# Altium schematic symbol library con-molex-c-grid-sl.SCHLIB: 143 symbols
Pins are listed as number, name and electrical type; pins without a type are passive.

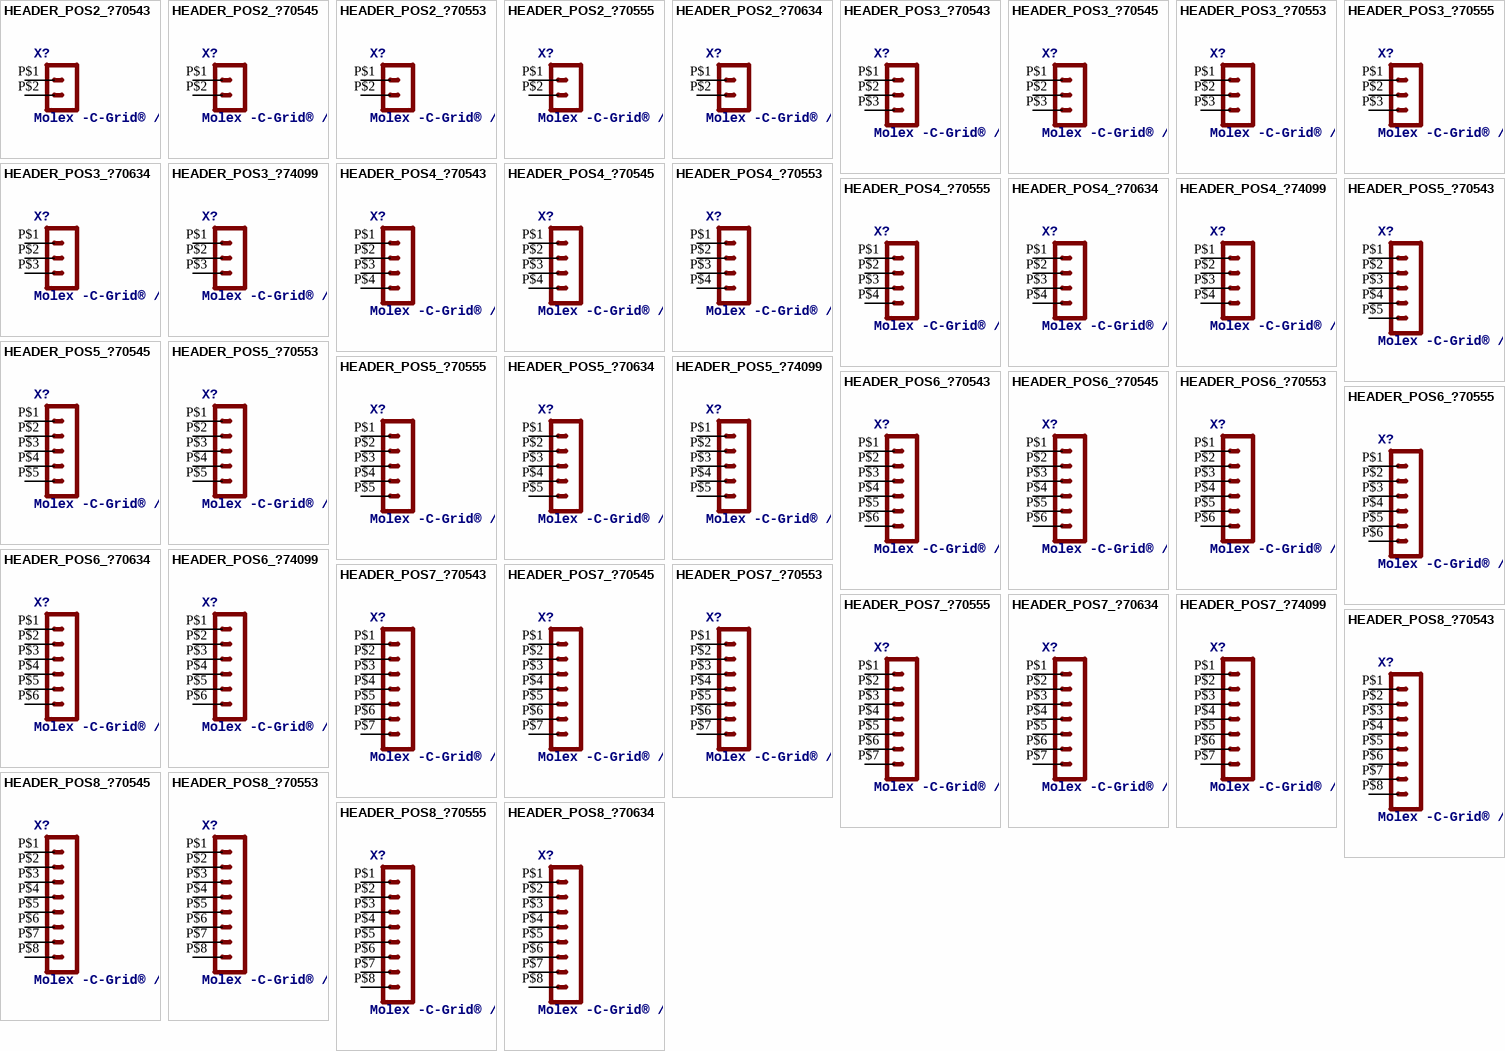
[diagram p0: symbols HEADER_POS2_?70543 to HEADER_POS8_?70634]

## HEADER_POS2_?70543
designator X?, comment Molex -C-Grid® / SL Series connector   Wire-to-Board 2.54 mm (0.100") pitch header, 2 positions.
footprint 70543-POS2
pins: P$1 1, P$2 2

## HEADER_POS2_?70545
designator X?, comment Molex -C-Grid® / SL Series connector   Wire-to-Board 2.54 mm (0.100") pitch header, 2 positions.
footprint 70545-POS2
pins: P$1 1, P$2 2

## HEADER_POS2_?70553
designator X?, comment Molex -C-Grid® / SL Series connector   Wire-to-Board 2.54 mm (0.100") pitch header, 2 positions.
footprint 70553-POS2
pins: P$1 1, P$2 2

## HEADER_POS2_?70555
designator X?, comment Molex -C-Grid® / SL Series connector   Wire-to-Board 2.54 mm (0.100") pitch header, 2 positions.
footprint 70555-POS2
pins: P$1 1, P$2 2

## HEADER_POS2_?70634
designator X?, comment Molex -C-Grid® / SL Series connector   Wire-to-Board 2.54 mm (0.100") pitch header, 2 positions.
footprint 70634-POS2
pins: P$1 1, P$2 2

## HEADER_POS3_?70543
designator X?, comment Molex -C-Grid® / SL Series connector   Wire-to-Board 2.54 mm (0.100") pitch header, 3 positions.
footprint 70543-POS3
pins: P$1 1, P$2 2, P$3 3

## HEADER_POS3_?70545
designator X?, comment Molex -C-Grid® / SL Series connector   Wire-to-Board 2.54 mm (0.100") pitch header, 3 positions.
footprint 70545-POS3
pins: P$1 1, P$2 2, P$3 3

## HEADER_POS3_?70553
designator X?, comment Molex -C-Grid® / SL Series connector   Wire-to-Board 2.54 mm (0.100") pitch header, 3 positions.
footprint 70553-POS3
pins: P$1 1, P$2 2, P$3 3

## HEADER_POS3_?70555
designator X?, comment Molex -C-Grid® / SL Series connector   Wire-to-Board 2.54 mm (0.100") pitch header, 3 positions.
footprint 70555-POS3
pins: P$1 1, P$2 2, P$3 3

## HEADER_POS3_?70634
designator X?, comment Molex -C-Grid® / SL Series connector   Wire-to-Board 2.54 mm (0.100") pitch header, 3 positions.
footprint 70634-POS3
pins: P$1 1, P$2 2, P$3 3

## HEADER_POS3_?74099
designator X?, comment Molex -C-Grid® / SL Series connector   Wire-to-Board 2.54 mm (0.100") pitch header, 3 positions.
footprint 74099-POS3
pins: P$1 1, P$2 2, P$3 3

## HEADER_POS4_?70543
designator X?, comment Molex -C-Grid® / SL Series connector   Wire-to-Board 2.54 mm (0.100") pitch header, 4 positions.
footprint 70543-POS4
pins: P$1 1, P$2 2, P$3 3, P$4 4

## HEADER_POS4_?70545
designator X?, comment Molex -C-Grid® / SL Series connector   Wire-to-Board 2.54 mm (0.100") pitch header, 4 positions.
footprint 70545-POS4
pins: P$1 1, P$2 2, P$3 3, P$4 4

## HEADER_POS4_?70553
designator X?, comment Molex -C-Grid® / SL Series connector   Wire-to-Board 2.54 mm (0.100") pitch header, 4 positions.
footprint 70553-POS4
pins: P$1 1, P$2 2, P$3 3, P$4 4

## HEADER_POS4_?70555
designator X?, comment Molex -C-Grid® / SL Series connector   Wire-to-Board 2.54 mm (0.100") pitch header, 4 positions.
footprint 70555-POS4
pins: P$1 1, P$2 2, P$3 3, P$4 4

## HEADER_POS4_?70634
designator X?, comment Molex -C-Grid® / SL Series connector   Wire-to-Board 2.54 mm (0.100") pitch header, 4 positions.
footprint 70634-POS4
pins: P$1 1, P$2 2, P$3 3, P$4 4

## HEADER_POS4_?74099
designator X?, comment Molex -C-Grid® / SL Series connector   Wire-to-Board 2.54 mm (0.100") pitch header, 4 positions.
footprint 74099-POS4
pins: P$1 1, P$2 2, P$3 3, P$4 4

## HEADER_POS5_?70543
designator X?, comment Molex -C-Grid® / SL Series connector   Wire-to-Board 2.54 mm (0.100") pitch header, 5 positions.
footprint 70543-POS5
pins: P$1 1, P$2 2, P$3 3, P$4 4, P$5 5

## HEADER_POS5_?70545
designator X?, comment Molex -C-Grid® / SL Series connector   Wire-to-Board 2.54 mm (0.100") pitch header, 5 positions.
footprint 70545-POS5
pins: P$1 1, P$2 2, P$3 3, P$4 4, P$5 5

## HEADER_POS5_?70553
designator X?, comment Molex -C-Grid® / SL Series connector   Wire-to-Board 2.54 mm (0.100") pitch header, 5 positions.
footprint 70553-POS5
pins: P$1 1, P$2 2, P$3 3, P$4 4, P$5 5

## HEADER_POS5_?70555
designator X?, comment Molex -C-Grid® / SL Series connector   Wire-to-Board 2.54 mm (0.100") pitch header, 5 positions.
footprint 70555-POS5
pins: P$1 1, P$2 2, P$3 3, P$4 4, P$5 5

## HEADER_POS5_?70634
designator X?, comment Molex -C-Grid® / SL Series connector   Wire-to-Board 2.54 mm (0.100") pitch header, 5 positions.
footprint 70634-POS5
pins: P$1 1, P$2 2, P$3 3, P$4 4, P$5 5

## HEADER_POS5_?74099
designator X?, comment Molex -C-Grid® / SL Series connector   Wire-to-Board 2.54 mm (0.100") pitch header, 5 positions.
footprint 74099-POS5
pins: P$1 1, P$2 2, P$3 3, P$4 4, P$5 5

## HEADER_POS6_?70543
designator X?, comment Molex -C-Grid® / SL Series connector   Wire-to-Board 2.54 mm (0.100") pitch header, 6 positions.
footprint 70543-POS6
pins: P$1 1, P$2 2, P$3 3, P$4 4, P$5 5, P$6 6

## HEADER_POS6_?70545
designator X?, comment Molex -C-Grid® / SL Series connector   Wire-to-Board 2.54 mm (0.100") pitch header, 6 positions.
footprint 70545-POS6
pins: P$1 1, P$2 2, P$3 3, P$4 4, P$5 5, P$6 6

## HEADER_POS6_?70553
designator X?, comment Molex -C-Grid® / SL Series connector   Wire-to-Board 2.54 mm (0.100") pitch header, 6 positions.
footprint 70553-POS6
pins: P$1 1, P$2 2, P$3 3, P$4 4, P$5 5, P$6 6

## HEADER_POS6_?70555
designator X?, comment Molex -C-Grid® / SL Series connector   Wire-to-Board 2.54 mm (0.100") pitch header, 6 positions.
footprint 70555-POS6
pins: P$1 1, P$2 2, P$3 3, P$4 4, P$5 5, P$6 6

## HEADER_POS6_?70634
designator X?, comment Molex -C-Grid® / SL Series connector   Wire-to-Board 2.54 mm (0.100") pitch header, 6 positions.
footprint 70634-POS6
pins: P$1 1, P$2 2, P$3 3, P$4 4, P$5 5, P$6 6

## HEADER_POS6_?74099
designator X?, comment Molex -C-Grid® / SL Series connector   Wire-to-Board 2.54 mm (0.100") pitch header, 6 positions.
footprint 74099-POS6
pins: P$1 1, P$2 2, P$3 3, P$4 4, P$5 5, P$6 6

## HEADER_POS7_?70543
designator X?, comment Molex -C-Grid® / SL Series connector   Wire-to-Board 2.54 mm (0.100") pitch header, 7 positions.
footprint 70543-POS7
pins: P$1 1, P$2 2, P$3 3, P$4 4, P$5 5, P$6 6, P$7 7

## HEADER_POS7_?70545
designator X?, comment Molex -C-Grid® / SL Series connector   Wire-to-Board 2.54 mm (0.100") pitch header, 7 positions.
footprint 70545-POS7
pins: P$1 1, P$2 2, P$3 3, P$4 4, P$5 5, P$6 6, P$7 7

## HEADER_POS7_?70553
designator X?, comment Molex -C-Grid® / SL Series connector   Wire-to-Board 2.54 mm (0.100") pitch header, 7 positions.
footprint 70553-POS7
pins: P$1 1, P$2 2, P$3 3, P$4 4, P$5 5, P$6 6, P$7 7

## HEADER_POS7_?70555
designator X?, comment Molex -C-Grid® / SL Series connector   Wire-to-Board 2.54 mm (0.100") pitch header, 7 positions.
footprint 70555-POS7
pins: P$1 1, P$2 2, P$3 3, P$4 4, P$5 5, P$6 6, P$7 7

## HEADER_POS7_?70634
designator X?, comment Molex -C-Grid® / SL Series connector   Wire-to-Board 2.54 mm (0.100") pitch header, 7 positions.
footprint 70634-POS7
pins: P$1 1, P$2 2, P$3 3, P$4 4, P$5 5, P$6 6, P$7 7

## HEADER_POS7_?74099
designator X?, comment Molex -C-Grid® / SL Series connector   Wire-to-Board 2.54 mm (0.100") pitch header, 7 positions.
footprint 74099-POS7
pins: P$1 1, P$2 2, P$3 3, P$4 4, P$5 5, P$6 6, P$7 7

## HEADER_POS8_?70543
designator X?, comment Molex -C-Grid® / SL Series connector   Wire-to-Board 2.54 mm (0.100") pitch header, 8 positions.
footprint 70543-POS8
pins: P$1 1, P$2 2, P$3 3, P$4 4, P$5 5, P$6 6, P$7 7, P$8 8

## HEADER_POS8_?70545
designator X?, comment Molex -C-Grid® / SL Series connector   Wire-to-Board 2.54 mm (0.100") pitch header, 8 positions.
footprint 70545-POS8
pins: P$1 1, P$2 2, P$3 3, P$4 4, P$5 5, P$6 6, P$7 7, P$8 8

## HEADER_POS8_?70553
designator X?, comment Molex -C-Grid® / SL Series connector   Wire-to-Board 2.54 mm (0.100") pitch header, 8 positions.
footprint 70553-POS8
pins: P$1 1, P$2 2, P$3 3, P$4 4, P$5 5, P$6 6, P$7 7, P$8 8

## HEADER_POS8_?70555
designator X?, comment Molex -C-Grid® / SL Series connector   Wire-to-Board 2.54 mm (0.100") pitch header, 8 positions.
footprint 70555-POS8
pins: P$1 1, P$2 2, P$3 3, P$4 4, P$5 5, P$6 6, P$7 7, P$8 8

## HEADER_POS8_?70634
designator X?, comment Molex -C-Grid® / SL Series connector   Wire-to-Board 2.54 mm (0.100") pitch header, 8 positions.
footprint 70634-POS8
pins: P$1 1, P$2 2, P$3 3, P$4 4, P$5 5, P$6 6, P$7 7, P$8 8

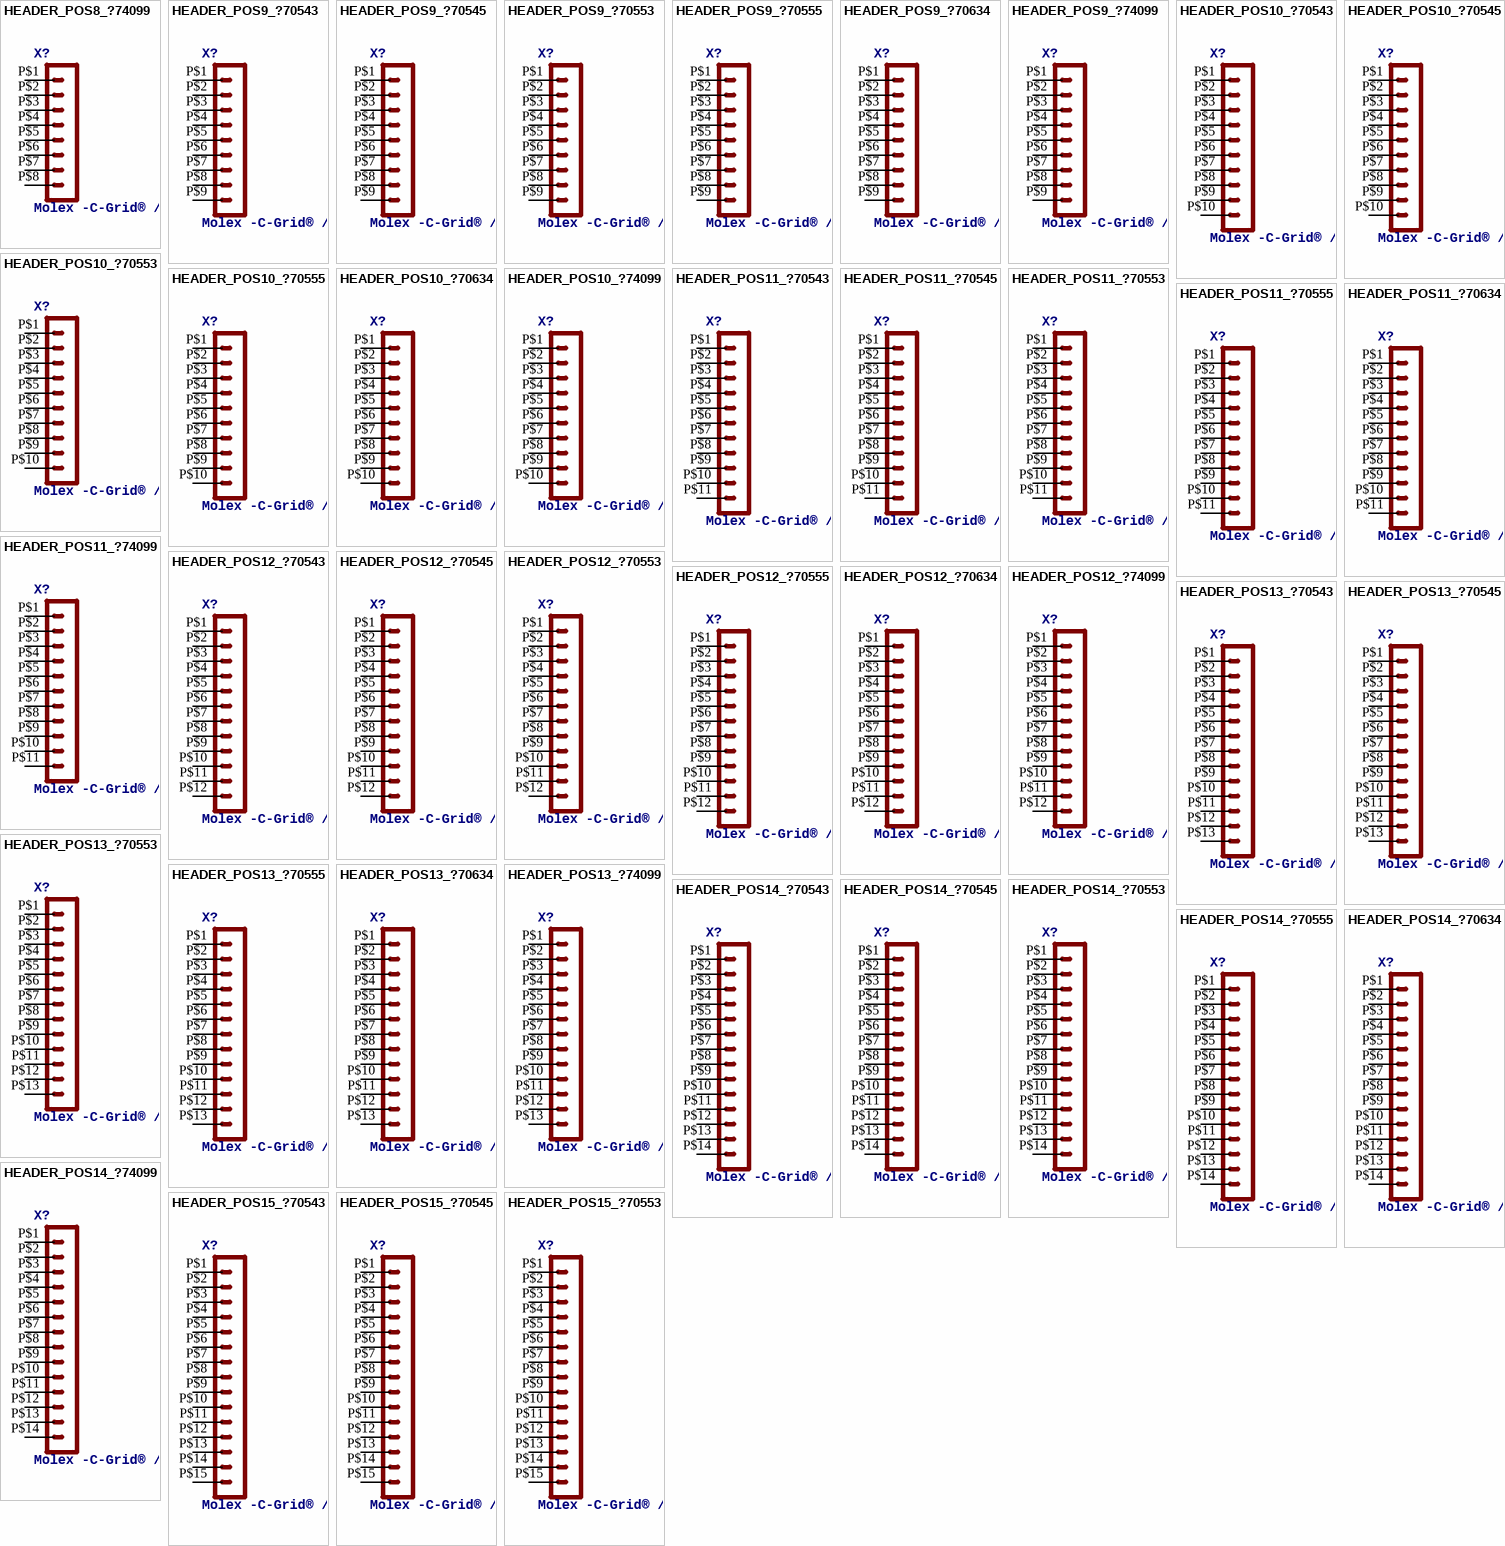
[diagram p1: symbols HEADER_POS8_?74099 to HEADER_POS15_?70553]

## HEADER_POS8_?74099
designator X?, comment Molex -C-Grid® / SL Series connector   Wire-to-Board 2.54 mm (0.100") pitch header, 8 positions.
footprint 74099-POS8
pins: P$1 1, P$2 2, P$3 3, P$4 4, P$5 5, P$6 6, P$7 7, P$8 8

## HEADER_POS9_?70543
designator X?, comment Molex -C-Grid® / SL Series connector   Wire-to-Board 2.54 mm (0.100") pitch header, 9 positions.
footprint 70543-POS9
pins: P$1 1, P$2 2, P$3 3, P$4 4, P$5 5, P$6 6, P$7 7, P$8 8, P$9 9

## HEADER_POS9_?70545
designator X?, comment Molex -C-Grid® / SL Series connector   Wire-to-Board 2.54 mm (0.100") pitch header, 9 positions.
footprint 70545-POS9
pins: P$1 1, P$2 2, P$3 3, P$4 4, P$5 5, P$6 6, P$7 7, P$8 8, P$9 9

## HEADER_POS9_?70553
designator X?, comment Molex -C-Grid® / SL Series connector   Wire-to-Board 2.54 mm (0.100") pitch header, 9 positions.
footprint 70553-POS9
pins: P$1 1, P$2 2, P$3 3, P$4 4, P$5 5, P$6 6, P$7 7, P$8 8, P$9 9

## HEADER_POS9_?70555
designator X?, comment Molex -C-Grid® / SL Series connector   Wire-to-Board 2.54 mm (0.100") pitch header, 9 positions.
footprint 70555-POS9
pins: P$1 1, P$2 2, P$3 3, P$4 4, P$5 5, P$6 6, P$7 7, P$8 8, P$9 9

## HEADER_POS9_?70634
designator X?, comment Molex -C-Grid® / SL Series connector   Wire-to-Board 2.54 mm (0.100") pitch header, 9 positions.
footprint 70634-POS9
pins: P$1 1, P$2 2, P$3 3, P$4 4, P$5 5, P$6 6, P$7 7, P$8 8, P$9 9

## HEADER_POS9_?74099
designator X?, comment Molex -C-Grid® / SL Series connector   Wire-to-Board 2.54 mm (0.100") pitch header, 9 positions.
footprint 74099-POS9
pins: P$1 1, P$2 2, P$3 3, P$4 4, P$5 5, P$6 6, P$7 7, P$8 8, P$9 9

## HEADER_POS10_?70543
designator X?, comment Molex -C-Grid® / SL Series connector   Wire-to-Board 2.54 mm (0.100") pitch header, 10 positions.
footprint 70543-POS10
pins: P$1 1, P$2 2, P$3 3, P$4 4, P$5 5, P$6 6, P$7 7, P$8 8, P$9 9, P$10 10

## HEADER_POS10_?70545
designator X?, comment Molex -C-Grid® / SL Series connector   Wire-to-Board 2.54 mm (0.100") pitch header, 10 positions.
footprint 70545-POS10
pins: P$1 1, P$2 2, P$3 3, P$4 4, P$5 5, P$6 6, P$7 7, P$8 8, P$9 9, P$10 10

## HEADER_POS10_?70553
designator X?, comment Molex -C-Grid® / SL Series connector   Wire-to-Board 2.54 mm (0.100") pitch header, 10 positions.
footprint 70553-POS10
pins: P$1 1, P$2 2, P$3 3, P$4 4, P$5 5, P$6 6, P$7 7, P$8 8, P$9 9, P$10 10

## HEADER_POS10_?70555
designator X?, comment Molex -C-Grid® / SL Series connector   Wire-to-Board 2.54 mm (0.100") pitch header, 10 positions.
footprint 70555-POS10
pins: P$1 1, P$2 2, P$3 3, P$4 4, P$5 5, P$6 6, P$7 7, P$8 8, P$9 9, P$10 10

## HEADER_POS10_?70634
designator X?, comment Molex -C-Grid® / SL Series connector   Wire-to-Board 2.54 mm (0.100") pitch header, 10 positions.
footprint 70634-POS10
pins: P$1 1, P$2 2, P$3 3, P$4 4, P$5 5, P$6 6, P$7 7, P$8 8, P$9 9, P$10 10

## HEADER_POS10_?74099
designator X?, comment Molex -C-Grid® / SL Series connector   Wire-to-Board 2.54 mm (0.100") pitch header, 10 positions.
footprint 74099-POS10
pins: P$1 1, P$2 2, P$3 3, P$4 4, P$5 5, P$6 6, P$7 7, P$8 8, P$9 9, P$10 10

## HEADER_POS11_?70543
designator X?, comment Molex -C-Grid® / SL Series connector   Wire-to-Board 2.54 mm (0.100") pitch header, 11 positions.
footprint 70543-POS11
pins: P$1 1, P$2 2, P$3 3, P$4 4, P$5 5, P$6 6, P$7 7, P$8 8, P$9 9, P$10 10, P$11 11

## HEADER_POS11_?70545
designator X?, comment Molex -C-Grid® / SL Series connector   Wire-to-Board 2.54 mm (0.100") pitch header, 11 positions.
footprint 70545-POS11
pins: P$1 1, P$2 2, P$3 3, P$4 4, P$5 5, P$6 6, P$7 7, P$8 8, P$9 9, P$10 10, P$11 11

## HEADER_POS11_?70553
designator X?, comment Molex -C-Grid® / SL Series connector   Wire-to-Board 2.54 mm (0.100") pitch header, 11 positions.
footprint 70553-POS11
pins: P$1 1, P$2 2, P$3 3, P$4 4, P$5 5, P$6 6, P$7 7, P$8 8, P$9 9, P$10 10, P$11 11

## HEADER_POS11_?70555
designator X?, comment Molex -C-Grid® / SL Series connector   Wire-to-Board 2.54 mm (0.100") pitch header, 11 positions.
footprint 70555-POS11
pins: P$1 1, P$2 2, P$3 3, P$4 4, P$5 5, P$6 6, P$7 7, P$8 8, P$9 9, P$10 10, P$11 11

## HEADER_POS11_?70634
designator X?, comment Molex -C-Grid® / SL Series connector   Wire-to-Board 2.54 mm (0.100") pitch header, 11 positions.
footprint 70634-POS11
pins: P$1 1, P$2 2, P$3 3, P$4 4, P$5 5, P$6 6, P$7 7, P$8 8, P$9 9, P$10 10, P$11 11

## HEADER_POS11_?74099
designator X?, comment Molex -C-Grid® / SL Series connector   Wire-to-Board 2.54 mm (0.100") pitch header, 11 positions.
footprint 74099-POS11
pins: P$1 1, P$2 2, P$3 3, P$4 4, P$5 5, P$6 6, P$7 7, P$8 8, P$9 9, P$10 10, P$11 11

## HEADER_POS12_?70543
designator X?, comment Molex -C-Grid® / SL Series connector   Wire-to-Board 2.54 mm (0.100") pitch header, 12 positions.
footprint 70543-POS12
pins: P$1 1, P$2 2, P$3 3, P$4 4, P$5 5, P$6 6, P$7 7, P$8 8, P$9 9, P$10 10, P$11 11, P$12 12

## HEADER_POS12_?70545
designator X?, comment Molex -C-Grid® / SL Series connector   Wire-to-Board 2.54 mm (0.100") pitch header, 12 positions.
footprint 70545-POS12
pins: P$1 1, P$2 2, P$3 3, P$4 4, P$5 5, P$6 6, P$7 7, P$8 8, P$9 9, P$10 10, P$11 11, P$12 12

## HEADER_POS12_?70553
designator X?, comment Molex -C-Grid® / SL Series connector   Wire-to-Board 2.54 mm (0.100") pitch header, 12 positions.
footprint 70553-POS12
pins: P$1 1, P$2 2, P$3 3, P$4 4, P$5 5, P$6 6, P$7 7, P$8 8, P$9 9, P$10 10, P$11 11, P$12 12

## HEADER_POS12_?70555
designator X?, comment Molex -C-Grid® / SL Series connector   Wire-to-Board 2.54 mm (0.100") pitch header, 12 positions.
footprint 70555-POS12
pins: P$1 1, P$2 2, P$3 3, P$4 4, P$5 5, P$6 6, P$7 7, P$8 8, P$9 9, P$10 10, P$11 11, P$12 12

## HEADER_POS12_?70634
designator X?, comment Molex -C-Grid® / SL Series connector   Wire-to-Board 2.54 mm (0.100") pitch header, 12 positions.
footprint 70634-POS12
pins: P$1 1, P$2 2, P$3 3, P$4 4, P$5 5, P$6 6, P$7 7, P$8 8, P$9 9, P$10 10, P$11 11, P$12 12

## HEADER_POS12_?74099
designator X?, comment Molex -C-Grid® / SL Series connector   Wire-to-Board 2.54 mm (0.100") pitch header, 12 positions.
footprint 74099-POS12
pins: P$1 1, P$2 2, P$3 3, P$4 4, P$5 5, P$6 6, P$7 7, P$8 8, P$9 9, P$10 10, P$11 11, P$12 12

## HEADER_POS13_?70543
designator X?, comment Molex -C-Grid® / SL Series connector   Wire-to-Board 2.54 mm (0.100") pitch header, 13 positions.
footprint 70543-POS13
pins: P$1 1, P$2 2, P$3 3, P$4 4, P$5 5, P$6 6, P$7 7, P$8 8, P$9 9, P$10 10, P$11 11, P$12 12, P$13 13

## HEADER_POS13_?70545
designator X?, comment Molex -C-Grid® / SL Series connector   Wire-to-Board 2.54 mm (0.100") pitch header, 13 positions.
footprint 70545-POS13
pins: P$1 1, P$2 2, P$3 3, P$4 4, P$5 5, P$6 6, P$7 7, P$8 8, P$9 9, P$10 10, P$11 11, P$12 12, P$13 13

## HEADER_POS13_?70553
designator X?, comment Molex -C-Grid® / SL Series connector   Wire-to-Board 2.54 mm (0.100") pitch header, 13 positions.
footprint 70553-POS13
pins: P$1 1, P$2 2, P$3 3, P$4 4, P$5 5, P$6 6, P$7 7, P$8 8, P$9 9, P$10 10, P$11 11, P$12 12, P$13 13

## HEADER_POS13_?70555
designator X?, comment Molex -C-Grid® / SL Series connector   Wire-to-Board 2.54 mm (0.100") pitch header, 13 positions.
footprint 70555-POS13
pins: P$1 1, P$2 2, P$3 3, P$4 4, P$5 5, P$6 6, P$7 7, P$8 8, P$9 9, P$10 10, P$11 11, P$12 12, P$13 13

## HEADER_POS13_?70634
designator X?, comment Molex -C-Grid® / SL Series connector   Wire-to-Board 2.54 mm (0.100") pitch header, 13 positions.
footprint 70634-POS13
pins: P$1 1, P$2 2, P$3 3, P$4 4, P$5 5, P$6 6, P$7 7, P$8 8, P$9 9, P$10 10, P$11 11, P$12 12, P$13 13

## HEADER_POS13_?74099
designator X?, comment Molex -C-Grid® / SL Series connector   Wire-to-Board 2.54 mm (0.100") pitch header, 13 positions.
footprint 74099-POS13
pins: P$1 1, P$2 2, P$3 3, P$4 4, P$5 5, P$6 6, P$7 7, P$8 8, P$9 9, P$10 10, P$11 11, P$12 12, P$13 13

## HEADER_POS14_?70543
designator X?, comment Molex -C-Grid® / SL Series connector   Wire-to-Board 2.54 mm (0.100") pitch header, 14 positions.
footprint 70543-POS14
pins: P$1 1, P$2 2, P$3 3, P$4 4, P$5 5, P$6 6, P$7 7, P$8 8, P$9 9, P$10 10, P$11 11, P$12 12, P$13 13, P$14 14

## HEADER_POS14_?70545
designator X?, comment Molex -C-Grid® / SL Series connector   Wire-to-Board 2.54 mm (0.100") pitch header, 14 positions.
footprint 70545-POS14
pins: P$1 1, P$2 2, P$3 3, P$4 4, P$5 5, P$6 6, P$7 7, P$8 8, P$9 9, P$10 10, P$11 11, P$12 12, P$13 13, P$14 14

## HEADER_POS14_?70553
designator X?, comment Molex -C-Grid® / SL Series connector   Wire-to-Board 2.54 mm (0.100") pitch header, 14 positions.
footprint 70553-POS14
pins: P$1 1, P$2 2, P$3 3, P$4 4, P$5 5, P$6 6, P$7 7, P$8 8, P$9 9, P$10 10, P$11 11, P$12 12, P$13 13, P$14 14

## HEADER_POS14_?70555
designator X?, comment Molex -C-Grid® / SL Series connector   Wire-to-Board 2.54 mm (0.100") pitch header, 14 positions.
footprint 70555-POS14
pins: P$1 1, P$2 2, P$3 3, P$4 4, P$5 5, P$6 6, P$7 7, P$8 8, P$9 9, P$10 10, P$11 11, P$12 12, P$13 13, P$14 14

## HEADER_POS14_?70634
designator X?, comment Molex -C-Grid® / SL Series connector   Wire-to-Board 2.54 mm (0.100") pitch header, 14 positions.
footprint 70634-POS14
pins: P$1 1, P$2 2, P$3 3, P$4 4, P$5 5, P$6 6, P$7 7, P$8 8, P$9 9, P$10 10, P$11 11, P$12 12, P$13 13, P$14 14

## HEADER_POS14_?74099
designator X?, comment Molex -C-Grid® / SL Series connector   Wire-to-Board 2.54 mm (0.100") pitch header, 14 positions.
footprint 74099-POS14
pins: P$1 1, P$2 2, P$3 3, P$4 4, P$5 5, P$6 6, P$7 7, P$8 8, P$9 9, P$10 10, P$11 11, P$12 12, P$13 13, P$14 14

## HEADER_POS15_?70543
designator X?, comment Molex -C-Grid® / SL Series connector   Wire-to-Board 2.54 mm (0.100") pitch header, 15 positions.
footprint 70543-POS15
pins: P$1 1, P$2 2, P$3 3, P$4 4, P$5 5, P$6 6, P$7 7, P$8 8, P$9 9, P$10 10, P$11 11, P$12 12, P$13 13, P$14 14, P$15 15

## HEADER_POS15_?70545
designator X?, comment Molex -C-Grid® / SL Series connector   Wire-to-Board 2.54 mm (0.100") pitch header, 15 positions.
footprint 70545-POS15
pins: P$1 1, P$2 2, P$3 3, P$4 4, P$5 5, P$6 6, P$7 7, P$8 8, P$9 9, P$10 10, P$11 11, P$12 12, P$13 13, P$14 14, P$15 15

## HEADER_POS15_?70553
designator X?, comment Molex -C-Grid® / SL Series connector   Wire-to-Board 2.54 mm (0.100") pitch header, 15 positions.
footprint 70553-POS15
pins: P$1 1, P$2 2, P$3 3, P$4 4, P$5 5, P$6 6, P$7 7, P$8 8, P$9 9, P$10 10, P$11 11, P$12 12, P$13 13, P$14 14, P$15 15

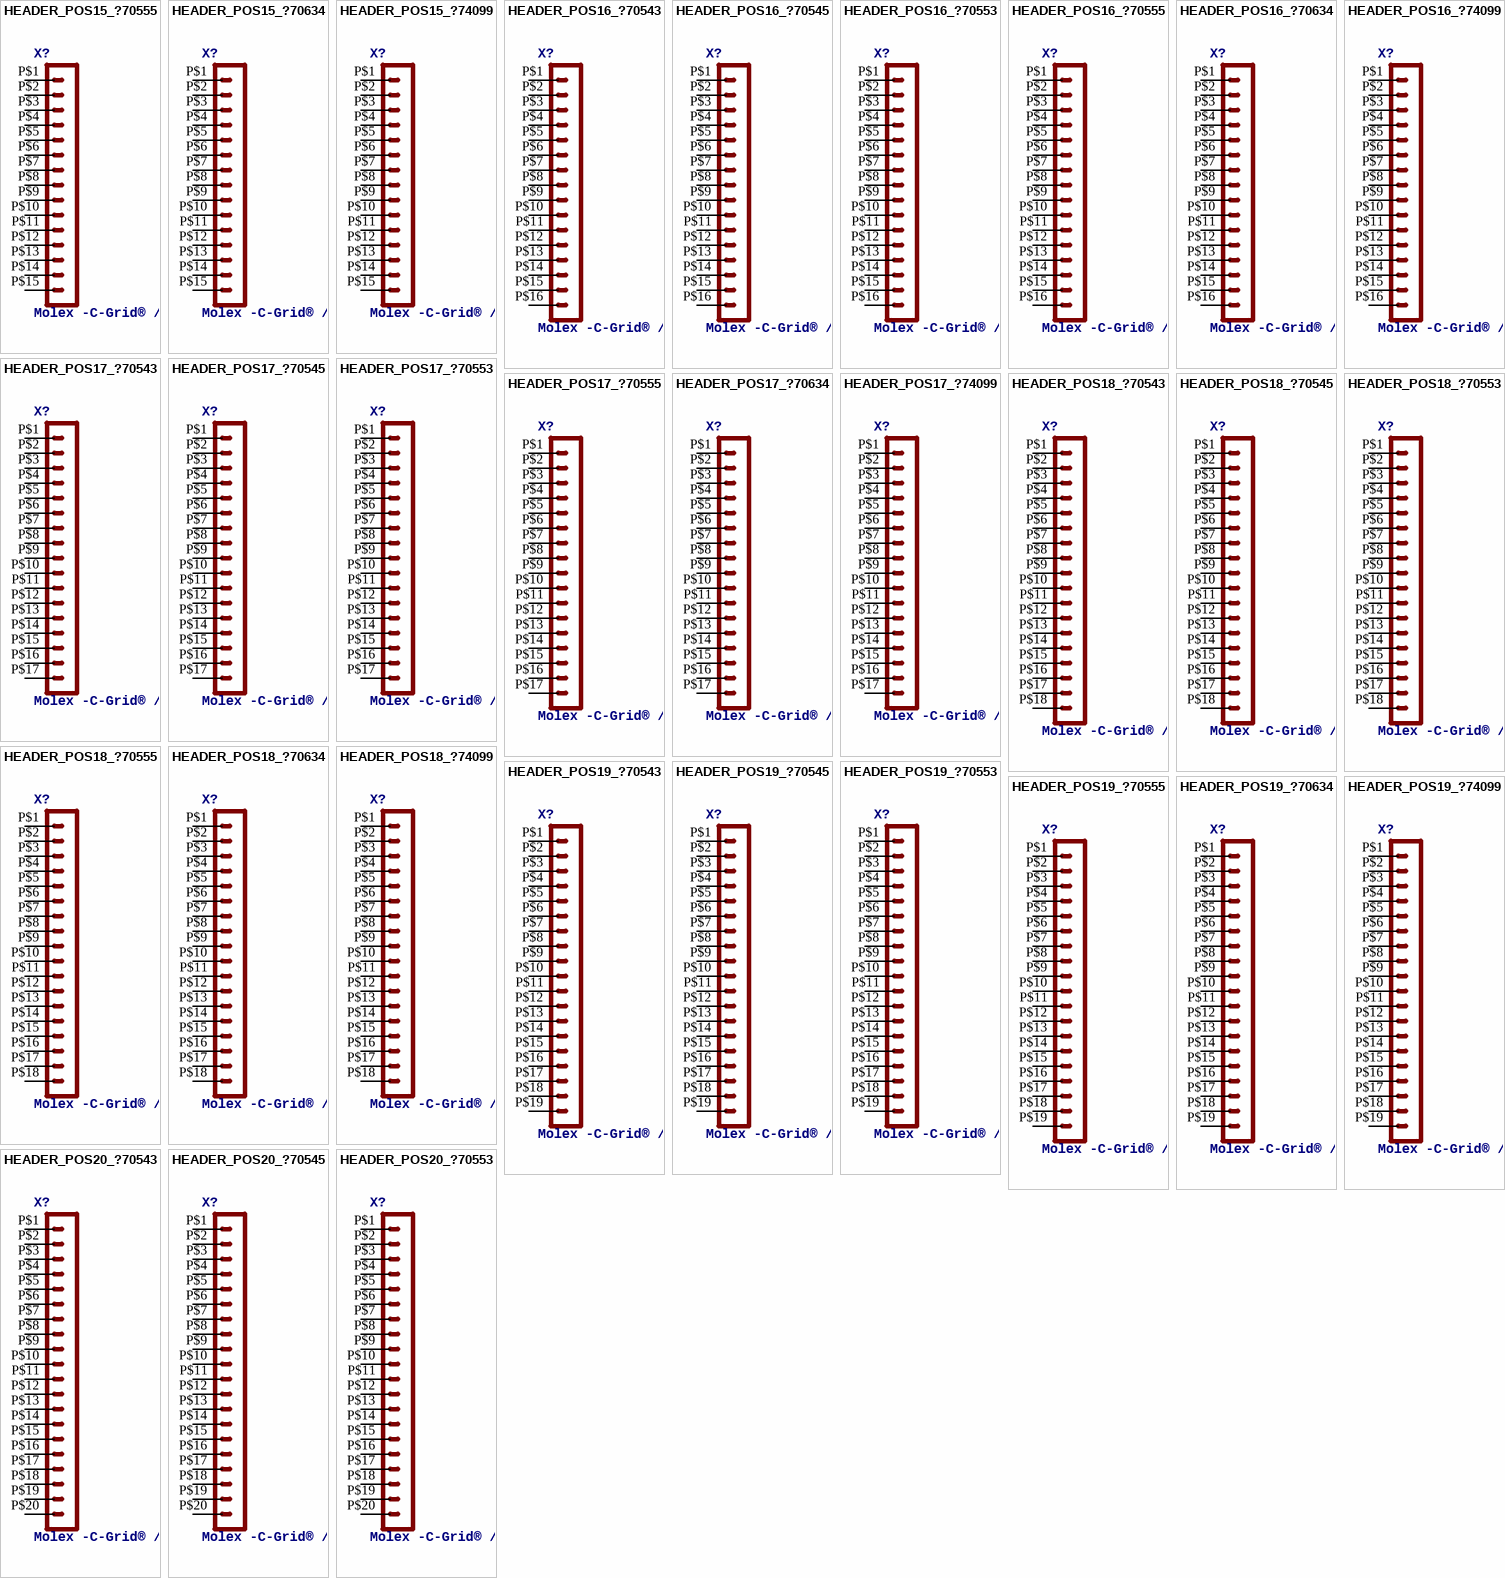
[diagram p2: symbols HEADER_POS15_?70555 to HEADER_POS20_?70553]

## HEADER_POS15_?70555
designator X?, comment Molex -C-Grid® / SL Series connector   Wire-to-Board 2.54 mm (0.100") pitch header, 15 positions.
footprint 70555-POS15
pins: P$1 1, P$2 2, P$3 3, P$4 4, P$5 5, P$6 6, P$7 7, P$8 8, P$9 9, P$10 10, P$11 11, P$12 12, P$13 13, P$14 14, P$15 15

## HEADER_POS15_?70634
designator X?, comment Molex -C-Grid® / SL Series connector   Wire-to-Board 2.54 mm (0.100") pitch header, 15 positions.
footprint 70634-POS15
pins: P$1 1, P$2 2, P$3 3, P$4 4, P$5 5, P$6 6, P$7 7, P$8 8, P$9 9, P$10 10, P$11 11, P$12 12, P$13 13, P$14 14, P$15 15

## HEADER_POS15_?74099
designator X?, comment Molex -C-Grid® / SL Series connector   Wire-to-Board 2.54 mm (0.100") pitch header, 15 positions.
footprint 74099-POS15
pins: P$1 1, P$2 2, P$3 3, P$4 4, P$5 5, P$6 6, P$7 7, P$8 8, P$9 9, P$10 10, P$11 11, P$12 12, P$13 13, P$14 14, P$15 15

## HEADER_POS16_?70543
designator X?, comment Molex -C-Grid® / SL Series connector   Wire-to-Board 2.54 mm (0.100") pitch header, 16 positions.
footprint 70543-POS16
pins: P$1 1, P$2 2, P$3 3, P$4 4, P$5 5, P$6 6, P$7 7, P$8 8, P$9 9, P$10 10, P$11 11, P$12 12, P$13 13, P$14 14, P$15 15, P$16 16

## HEADER_POS16_?70545
designator X?, comment Molex -C-Grid® / SL Series connector   Wire-to-Board 2.54 mm (0.100") pitch header, 16 positions.
footprint 70545-POS16
pins: P$1 1, P$2 2, P$3 3, P$4 4, P$5 5, P$6 6, P$7 7, P$8 8, P$9 9, P$10 10, P$11 11, P$12 12, P$13 13, P$14 14, P$15 15, P$16 16

## HEADER_POS16_?70553
designator X?, comment Molex -C-Grid® / SL Series connector   Wire-to-Board 2.54 mm (0.100") pitch header, 16 positions.
footprint 70553-POS16
pins: P$1 1, P$2 2, P$3 3, P$4 4, P$5 5, P$6 6, P$7 7, P$8 8, P$9 9, P$10 10, P$11 11, P$12 12, P$13 13, P$14 14, P$15 15, P$16 16

## HEADER_POS16_?70555
designator X?, comment Molex -C-Grid® / SL Series connector   Wire-to-Board 2.54 mm (0.100") pitch header, 16 positions.
footprint 70555-POS16
pins: P$1 1, P$2 2, P$3 3, P$4 4, P$5 5, P$6 6, P$7 7, P$8 8, P$9 9, P$10 10, P$11 11, P$12 12, P$13 13, P$14 14, P$15 15, P$16 16

## HEADER_POS16_?70634
designator X?, comment Molex -C-Grid® / SL Series connector   Wire-to-Board 2.54 mm (0.100") pitch header, 16 positions.
footprint 70634-POS16
pins: P$1 1, P$2 2, P$3 3, P$4 4, P$5 5, P$6 6, P$7 7, P$8 8, P$9 9, P$10 10, P$11 11, P$12 12, P$13 13, P$14 14, P$15 15, P$16 16

## HEADER_POS16_?74099
designator X?, comment Molex -C-Grid® / SL Series connector   Wire-to-Board 2.54 mm (0.100") pitch header, 16 positions.
footprint 74099-POS16
pins: P$1 1, P$2 2, P$3 3, P$4 4, P$5 5, P$6 6, P$7 7, P$8 8, P$9 9, P$10 10, P$11 11, P$12 12, P$13 13, P$14 14, P$15 15, P$16 16

## HEADER_POS17_?70543
designator X?, comment Molex -C-Grid® / SL Series connector   Wire-to-Board 2.54 mm (0.100") pitch header, 17 positions.
footprint 70543-POS17
pins: P$1 1, P$2 2, P$3 3, P$4 4, P$5 5, P$6 6, P$7 7, P$8 8, P$9 9, P$10 10, P$11 11, P$12 12, P$13 13, P$14 14, P$15 15, P$16 16, P$17 17

## HEADER_POS17_?70545
designator X?, comment Molex -C-Grid® / SL Series connector   Wire-to-Board 2.54 mm (0.100") pitch header, 17 positions.
footprint 70545-POS17
pins: P$1 1, P$2 2, P$3 3, P$4 4, P$5 5, P$6 6, P$7 7, P$8 8, P$9 9, P$10 10, P$11 11, P$12 12, P$13 13, P$14 14, P$15 15, P$16 16, P$17 17

## HEADER_POS17_?70553
designator X?, comment Molex -C-Grid® / SL Series connector   Wire-to-Board 2.54 mm (0.100") pitch header, 17 positions.
footprint 70553-POS17
pins: P$1 1, P$2 2, P$3 3, P$4 4, P$5 5, P$6 6, P$7 7, P$8 8, P$9 9, P$10 10, P$11 11, P$12 12, P$13 13, P$14 14, P$15 15, P$16 16, P$17 17

## HEADER_POS17_?70555
designator X?, comment Molex -C-Grid® / SL Series connector   Wire-to-Board 2.54 mm (0.100") pitch header, 17 positions.
footprint 70555-POS17
pins: P$1 1, P$2 2, P$3 3, P$4 4, P$5 5, P$6 6, P$7 7, P$8 8, P$9 9, P$10 10, P$11 11, P$12 12, P$13 13, P$14 14, P$15 15, P$16 16, P$17 17

## HEADER_POS17_?70634
designator X?, comment Molex -C-Grid® / SL Series connector   Wire-to-Board 2.54 mm (0.100") pitch header, 17 positions.
footprint 70634-POS17
pins: P$1 1, P$2 2, P$3 3, P$4 4, P$5 5, P$6 6, P$7 7, P$8 8, P$9 9, P$10 10, P$11 11, P$12 12, P$13 13, P$14 14, P$15 15, P$16 16, P$17 17

## HEADER_POS17_?74099
designator X?, comment Molex -C-Grid® / SL Series connector   Wire-to-Board 2.54 mm (0.100") pitch header, 17 positions.
footprint 74099-POS17
pins: P$1 1, P$2 2, P$3 3, P$4 4, P$5 5, P$6 6, P$7 7, P$8 8, P$9 9, P$10 10, P$11 11, P$12 12, P$13 13, P$14 14, P$15 15, P$16 16, P$17 17

## HEADER_POS18_?70543
designator X?, comment Molex -C-Grid® / SL Series connector   Wire-to-Board 2.54 mm (0.100") pitch header, 18 positions.
footprint 70543-POS18
pins: P$1 1, P$2 2, P$3 3, P$4 4, P$5 5, P$6 6, P$7 7, P$8 8, P$9 9, P$10 10, P$11 11, P$12 12, P$13 13, P$14 14, P$15 15, P$16 16, P$17 17, P$18 18

## HEADER_POS18_?70545
designator X?, comment Molex -C-Grid® / SL Series connector   Wire-to-Board 2.54 mm (0.100") pitch header, 18 positions.
footprint 70545-POS18
pins: P$1 1, P$2 2, P$3 3, P$4 4, P$5 5, P$6 6, P$7 7, P$8 8, P$9 9, P$10 10, P$11 11, P$12 12, P$13 13, P$14 14, P$15 15, P$16 16, P$17 17, P$18 18

## HEADER_POS18_?70553
designator X?, comment Molex -C-Grid® / SL Series connector   Wire-to-Board 2.54 mm (0.100") pitch header, 18 positions.
footprint 70553-POS18
pins: P$1 1, P$2 2, P$3 3, P$4 4, P$5 5, P$6 6, P$7 7, P$8 8, P$9 9, P$10 10, P$11 11, P$12 12, P$13 13, P$14 14, P$15 15, P$16 16, P$17 17, P$18 18

## HEADER_POS18_?70555
designator X?, comment Molex -C-Grid® / SL Series connector   Wire-to-Board 2.54 mm (0.100") pitch header, 18 positions.
footprint 70555-POS18
pins: P$1 1, P$2 2, P$3 3, P$4 4, P$5 5, P$6 6, P$7 7, P$8 8, P$9 9, P$10 10, P$11 11, P$12 12, P$13 13, P$14 14, P$15 15, P$16 16, P$17 17, P$18 18

## HEADER_POS18_?70634
designator X?, comment Molex -C-Grid® / SL Series connector   Wire-to-Board 2.54 mm (0.100") pitch header, 18 positions.
footprint 70634-POS18
pins: P$1 1, P$2 2, P$3 3, P$4 4, P$5 5, P$6 6, P$7 7, P$8 8, P$9 9, P$10 10, P$11 11, P$12 12, P$13 13, P$14 14, P$15 15, P$16 16, P$17 17, P$18 18

## HEADER_POS18_?74099
designator X?, comment Molex -C-Grid® / SL Series connector   Wire-to-Board 2.54 mm (0.100") pitch header, 18 positions.
footprint 74099-POS18
pins: P$1 1, P$2 2, P$3 3, P$4 4, P$5 5, P$6 6, P$7 7, P$8 8, P$9 9, P$10 10, P$11 11, P$12 12, P$13 13, P$14 14, P$15 15, P$16 16, P$17 17, P$18 18

## HEADER_POS19_?70543
designator X?, comment Molex -C-Grid® / SL Series connector   Wire-to-Board 2.54 mm (0.100") pitch header, 19 positions.
footprint 70543-POS19
pins: P$1 1, P$2 2, P$3 3, P$4 4, P$5 5, P$6 6, P$7 7, P$8 8, P$9 9, P$10 10, P$11 11, P$12 12, P$13 13, P$14 14, P$15 15, P$16 16, P$17 17, P$18 18, P$19 19

## HEADER_POS19_?70545
designator X?, comment Molex -C-Grid® / SL Series connector   Wire-to-Board 2.54 mm (0.100") pitch header, 19 positions.
footprint 70545-POS19
pins: P$1 1, P$2 2, P$3 3, P$4 4, P$5 5, P$6 6, P$7 7, P$8 8, P$9 9, P$10 10, P$11 11, P$12 12, P$13 13, P$14 14, P$15 15, P$16 16, P$17 17, P$18 18, P$19 19

## HEADER_POS19_?70553
designator X?, comment Molex -C-Grid® / SL Series connector   Wire-to-Board 2.54 mm (0.100") pitch header, 19 positions.
footprint 70553-POS19
pins: P$1 1, P$2 2, P$3 3, P$4 4, P$5 5, P$6 6, P$7 7, P$8 8, P$9 9, P$10 10, P$11 11, P$12 12, P$13 13, P$14 14, P$15 15, P$16 16, P$17 17, P$18 18, P$19 19

## HEADER_POS19_?70555
designator X?, comment Molex -C-Grid® / SL Series connector   Wire-to-Board 2.54 mm (0.100") pitch header, 19 positions.
footprint 70555-POS19
pins: P$1 1, P$2 2, P$3 3, P$4 4, P$5 5, P$6 6, P$7 7, P$8 8, P$9 9, P$10 10, P$11 11, P$12 12, P$13 13, P$14 14, P$15 15, P$16 16, P$17 17, P$18 18, P$19 19

## HEADER_POS19_?70634
designator X?, comment Molex -C-Grid® / SL Series connector   Wire-to-Board 2.54 mm (0.100") pitch header, 19 positions.
footprint 70634-POS19
pins: P$1 1, P$2 2, P$3 3, P$4 4, P$5 5, P$6 6, P$7 7, P$8 8, P$9 9, P$10 10, P$11 11, P$12 12, P$13 13, P$14 14, P$15 15, P$16 16, P$17 17, P$18 18, P$19 19

## HEADER_POS19_?74099
designator X?, comment Molex -C-Grid® / SL Series connector   Wire-to-Board 2.54 mm (0.100") pitch header, 19 positions.
footprint 74099-POS19
pins: P$1 1, P$2 2, P$3 3, P$4 4, P$5 5, P$6 6, P$7 7, P$8 8, P$9 9, P$10 10, P$11 11, P$12 12, P$13 13, P$14 14, P$15 15, P$16 16, P$17 17, P$18 18, P$19 19

## HEADER_POS20_?70543
designator X?, comment Molex -C-Grid® / SL Series connector   Wire-to-Board 2.54 mm (0.100") pitch header, 20 positions.
footprint 70543-POS20
pins: P$1 1, P$2 2, P$3 3, P$4 4, P$5 5, P$6 6, P$7 7, P$8 8, P$9 9, P$10 10, P$11 11, P$12 12, P$13 13, P$14 14, P$15 15, P$16 16, P$17 17, P$18 18, P$19 19, P$20 20

## HEADER_POS20_?70545
designator X?, comment Molex -C-Grid® / SL Series connector   Wire-to-Board 2.54 mm (0.100") pitch header, 20 positions.
footprint 70545-POS20
pins: P$1 1, P$2 2, P$3 3, P$4 4, P$5 5, P$6 6, P$7 7, P$8 8, P$9 9, P$10 10, P$11 11, P$12 12, P$13 13, P$14 14, P$15 15, P$16 16, P$17 17, P$18 18, P$19 19, P$20 20

## HEADER_POS20_?70553
designator X?, comment Molex -C-Grid® / SL Series connector   Wire-to-Board 2.54 mm (0.100") pitch header, 20 positions.
footprint 70553-POS20
pins: P$1 1, P$2 2, P$3 3, P$4 4, P$5 5, P$6 6, P$7 7, P$8 8, P$9 9, P$10 10, P$11 11, P$12 12, P$13 13, P$14 14, P$15 15, P$16 16, P$17 17, P$18 18, P$19 19, P$20 20

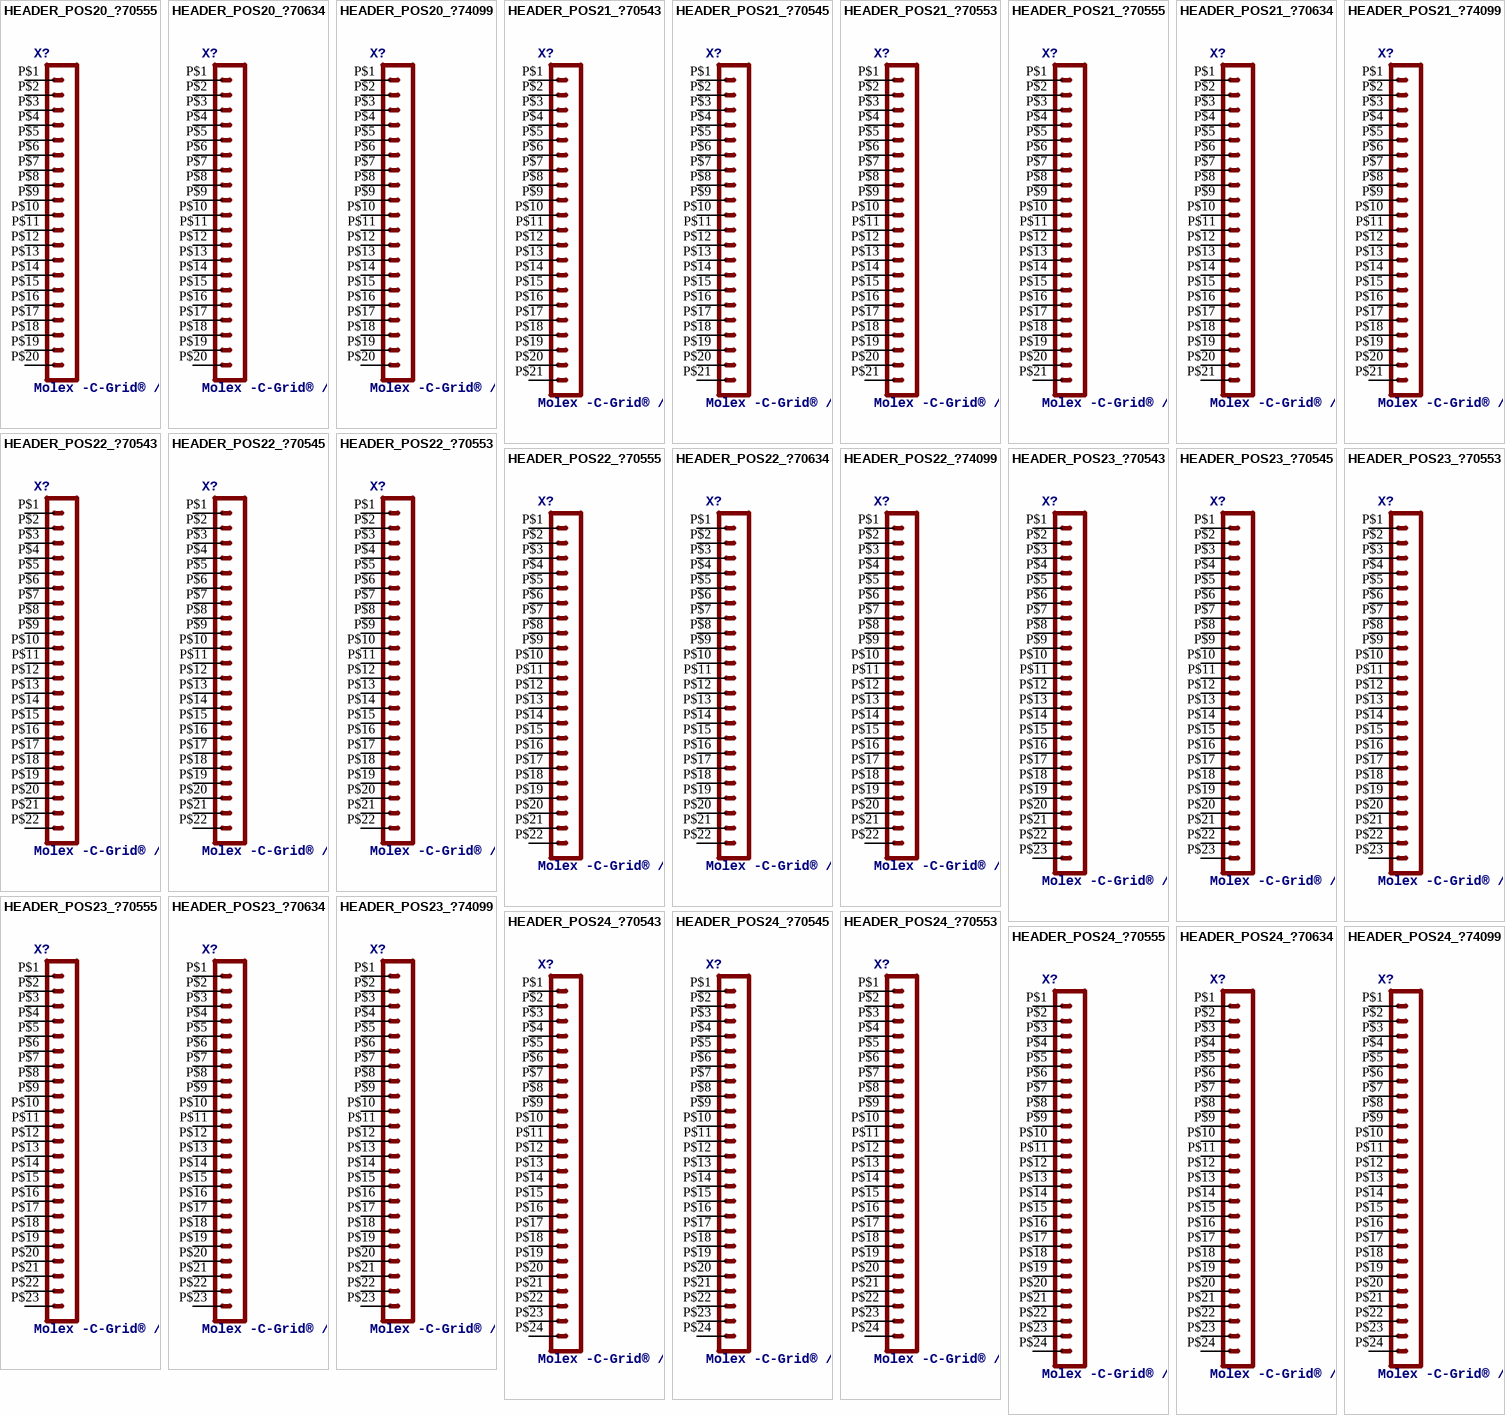
[diagram p3: symbols HEADER_POS20_?70555 to HEADER_POS24_?74099]

## HEADER_POS20_?70555
designator X?, comment Molex -C-Grid® / SL Series connector   Wire-to-Board 2.54 mm (0.100") pitch header, 20 positions.
footprint 70555-POS20
pins: P$1 1, P$2 2, P$3 3, P$4 4, P$5 5, P$6 6, P$7 7, P$8 8, P$9 9, P$10 10, P$11 11, P$12 12, P$13 13, P$14 14, P$15 15, P$16 16, P$17 17, P$18 18, P$19 19, P$20 20

## HEADER_POS20_?70634
designator X?, comment Molex -C-Grid® / SL Series connector   Wire-to-Board 2.54 mm (0.100") pitch header, 20 positions.
footprint 70634-POS20
pins: P$1 1, P$2 2, P$3 3, P$4 4, P$5 5, P$6 6, P$7 7, P$8 8, P$9 9, P$10 10, P$11 11, P$12 12, P$13 13, P$14 14, P$15 15, P$16 16, P$17 17, P$18 18, P$19 19, P$20 20

## HEADER_POS20_?74099
designator X?, comment Molex -C-Grid® / SL Series connector   Wire-to-Board 2.54 mm (0.100") pitch header, 20 positions.
footprint 74099-POS20
pins: P$1 1, P$2 2, P$3 3, P$4 4, P$5 5, P$6 6, P$7 7, P$8 8, P$9 9, P$10 10, P$11 11, P$12 12, P$13 13, P$14 14, P$15 15, P$16 16, P$17 17, P$18 18, P$19 19, P$20 20

## HEADER_POS21_?70543
designator X?, comment Molex -C-Grid® / SL Series connector   Wire-to-Board 2.54 mm (0.100") pitch header, 21 positions.
footprint 70543-POS21
pins: P$1 1, P$2 2, P$3 3, P$4 4, P$5 5, P$6 6, P$7 7, P$8 8, P$9 9, P$10 10, P$11 11, P$12 12, P$13 13, P$14 14, P$15 15, P$16 16, P$17 17, P$18 18, P$19 19, P$20 20, P$21 21

## HEADER_POS21_?70545
designator X?, comment Molex -C-Grid® / SL Series connector   Wire-to-Board 2.54 mm (0.100") pitch header, 21 positions.
footprint 70545-POS21
pins: P$1 1, P$2 2, P$3 3, P$4 4, P$5 5, P$6 6, P$7 7, P$8 8, P$9 9, P$10 10, P$11 11, P$12 12, P$13 13, P$14 14, P$15 15, P$16 16, P$17 17, P$18 18, P$19 19, P$20 20, P$21 21

## HEADER_POS21_?70553
designator X?, comment Molex -C-Grid® / SL Series connector   Wire-to-Board 2.54 mm (0.100") pitch header, 21 positions.
footprint 70553-POS21
pins: P$1 1, P$2 2, P$3 3, P$4 4, P$5 5, P$6 6, P$7 7, P$8 8, P$9 9, P$10 10, P$11 11, P$12 12, P$13 13, P$14 14, P$15 15, P$16 16, P$17 17, P$18 18, P$19 19, P$20 20, P$21 21

## HEADER_POS21_?70555
designator X?, comment Molex -C-Grid® / SL Series connector   Wire-to-Board 2.54 mm (0.100") pitch header, 21 positions.
footprint 70555-POS21
pins: P$1 1, P$2 2, P$3 3, P$4 4, P$5 5, P$6 6, P$7 7, P$8 8, P$9 9, P$10 10, P$11 11, P$12 12, P$13 13, P$14 14, P$15 15, P$16 16, P$17 17, P$18 18, P$19 19, P$20 20, P$21 21

## HEADER_POS21_?70634
designator X?, comment Molex -C-Grid® / SL Series connector   Wire-to-Board 2.54 mm (0.100") pitch header, 21 positions.
footprint 70634-POS21
pins: P$1 1, P$2 2, P$3 3, P$4 4, P$5 5, P$6 6, P$7 7, P$8 8, P$9 9, P$10 10, P$11 11, P$12 12, P$13 13, P$14 14, P$15 15, P$16 16, P$17 17, P$18 18, P$19 19, P$20 20, P$21 21

## HEADER_POS21_?74099
designator X?, comment Molex -C-Grid® / SL Series connector   Wire-to-Board 2.54 mm (0.100") pitch header, 21 positions.
footprint 74099-POS21
pins: P$1 1, P$2 2, P$3 3, P$4 4, P$5 5, P$6 6, P$7 7, P$8 8, P$9 9, P$10 10, P$11 11, P$12 12, P$13 13, P$14 14, P$15 15, P$16 16, P$17 17, P$18 18, P$19 19, P$20 20, P$21 21

## HEADER_POS22_?70543
designator X?, comment Molex -C-Grid® / SL Series connector   Wire-to-Board 2.54 mm (0.100") pitch header, 22 positions.
footprint 70543-POS22
pins: P$1 1, P$2 2, P$3 3, P$4 4, P$5 5, P$6 6, P$7 7, P$8 8, P$9 9, P$10 10, P$11 11, P$12 12, P$13 13, P$14 14, P$15 15, P$16 16, P$17 17, P$18 18, P$19 19, P$20 20, P$21 21, P$22 22

## HEADER_POS22_?70545
designator X?, comment Molex -C-Grid® / SL Series connector   Wire-to-Board 2.54 mm (0.100") pitch header, 22 positions.
footprint 70545-POS22
pins: P$1 1, P$2 2, P$3 3, P$4 4, P$5 5, P$6 6, P$7 7, P$8 8, P$9 9, P$10 10, P$11 11, P$12 12, P$13 13, P$14 14, P$15 15, P$16 16, P$17 17, P$18 18, P$19 19, P$20 20, P$21 21, P$22 22

## HEADER_POS22_?70553
designator X?, comment Molex -C-Grid® / SL Series connector   Wire-to-Board 2.54 mm (0.100") pitch header, 22 positions.
footprint 70553-POS22
pins: P$1 1, P$2 2, P$3 3, P$4 4, P$5 5, P$6 6, P$7 7, P$8 8, P$9 9, P$10 10, P$11 11, P$12 12, P$13 13, P$14 14, P$15 15, P$16 16, P$17 17, P$18 18, P$19 19, P$20 20, P$21 21, P$22 22

## HEADER_POS22_?70555
designator X?, comment Molex -C-Grid® / SL Series connector   Wire-to-Board 2.54 mm (0.100") pitch header, 22 positions.
footprint 70555-POS22
pins: P$1 1, P$2 2, P$3 3, P$4 4, P$5 5, P$6 6, P$7 7, P$8 8, P$9 9, P$10 10, P$11 11, P$12 12, P$13 13, P$14 14, P$15 15, P$16 16, P$17 17, P$18 18, P$19 19, P$20 20, P$21 21, P$22 22

## HEADER_POS22_?70634
designator X?, comment Molex -C-Grid® / SL Series connector   Wire-to-Board 2.54 mm (0.100") pitch header, 22 positions.
footprint 70634-POS22
pins: P$1 1, P$2 2, P$3 3, P$4 4, P$5 5, P$6 6, P$7 7, P$8 8, P$9 9, P$10 10, P$11 11, P$12 12, P$13 13, P$14 14, P$15 15, P$16 16, P$17 17, P$18 18, P$19 19, P$20 20, P$21 21, P$22 22

## HEADER_POS22_?74099
designator X?, comment Molex -C-Grid® / SL Series connector   Wire-to-Board 2.54 mm (0.100") pitch header, 22 positions.
footprint 74099-POS22
pins: P$1 1, P$2 2, P$3 3, P$4 4, P$5 5, P$6 6, P$7 7, P$8 8, P$9 9, P$10 10, P$11 11, P$12 12, P$13 13, P$14 14, P$15 15, P$16 16, P$17 17, P$18 18, P$19 19, P$20 20, P$21 21, P$22 22

## HEADER_POS23_?70543
designator X?, comment Molex -C-Grid® / SL Series connector   Wire-to-Board 2.54 mm (0.100") pitch header, 23 positions.
footprint 70543-POS23
pins: P$1 1, P$2 2, P$3 3, P$4 4, P$5 5, P$6 6, P$7 7, P$8 8, P$9 9, P$10 10, P$11 11, P$12 12, P$13 13, P$14 14, P$15 15, P$16 16, P$17 17, P$18 18, P$19 19, P$20 20, P$21 21, P$22 22, P$23 23

## HEADER_POS23_?70545
designator X?, comment Molex -C-Grid® / SL Series connector   Wire-to-Board 2.54 mm (0.100") pitch header, 23 positions.
footprint 70545-POS23
pins: P$1 1, P$2 2, P$3 3, P$4 4, P$5 5, P$6 6, P$7 7, P$8 8, P$9 9, P$10 10, P$11 11, P$12 12, P$13 13, P$14 14, P$15 15, P$16 16, P$17 17, P$18 18, P$19 19, P$20 20, P$21 21, P$22 22, P$23 23

## HEADER_POS23_?70553
designator X?, comment Molex -C-Grid® / SL Series connector   Wire-to-Board 2.54 mm (0.100") pitch header, 23 positions.
footprint 70553-POS23
pins: P$1 1, P$2 2, P$3 3, P$4 4, P$5 5, P$6 6, P$7 7, P$8 8, P$9 9, P$10 10, P$11 11, P$12 12, P$13 13, P$14 14, P$15 15, P$16 16, P$17 17, P$18 18, P$19 19, P$20 20, P$21 21, P$22 22, P$23 23

## HEADER_POS23_?70555
designator X?, comment Molex -C-Grid® / SL Series connector   Wire-to-Board 2.54 mm (0.100") pitch header, 23 positions.
footprint 70555-POS23
pins: P$1 1, P$2 2, P$3 3, P$4 4, P$5 5, P$6 6, P$7 7, P$8 8, P$9 9, P$10 10, P$11 11, P$12 12, P$13 13, P$14 14, P$15 15, P$16 16, P$17 17, P$18 18, P$19 19, P$20 20, P$21 21, P$22 22, P$23 23

## HEADER_POS23_?70634
designator X?, comment Molex -C-Grid® / SL Series connector   Wire-to-Board 2.54 mm (0.100") pitch header, 23 positions.
footprint 70634-POS23
pins: P$1 1, P$2 2, P$3 3, P$4 4, P$5 5, P$6 6, P$7 7, P$8 8, P$9 9, P$10 10, P$11 11, P$12 12, P$13 13, P$14 14, P$15 15, P$16 16, P$17 17, P$18 18, P$19 19, P$20 20, P$21 21, P$22 22, P$23 23

## HEADER_POS23_?74099
designator X?, comment Molex -C-Grid® / SL Series connector   Wire-to-Board 2.54 mm (0.100") pitch header, 23 positions.
footprint 74099-POS23
pins: P$1 1, P$2 2, P$3 3, P$4 4, P$5 5, P$6 6, P$7 7, P$8 8, P$9 9, P$10 10, P$11 11, P$12 12, P$13 13, P$14 14, P$15 15, P$16 16, P$17 17, P$18 18, P$19 19, P$20 20, P$21 21, P$22 22, P$23 23

## HEADER_POS24_?70543
designator X?, comment Molex -C-Grid® / SL Series connector   Wire-to-Board 2.54 mm (0.100") pitch header, 24 positions.
footprint 70543-POS24
pins: P$1 1, P$2 2, P$3 3, P$4 4, P$5 5, P$6 6, P$7 7, P$8 8, P$9 9, P$10 10, P$11 11, P$12 12, P$13 13, P$14 14, P$15 15, P$16 16, P$17 17, P$18 18, P$19 19, P$20 20, P$21 21, P$22 22, P$23 23, P$24 24

## HEADER_POS24_?70545
designator X?, comment Molex -C-Grid® / SL Series connector   Wire-to-Board 2.54 mm (0.100") pitch header, 24 positions.
footprint 70545-POS24
pins: P$1 1, P$2 2, P$3 3, P$4 4, P$5 5, P$6 6, P$7 7, P$8 8, P$9 9, P$10 10, P$11 11, P$12 12, P$13 13, P$14 14, P$15 15, P$16 16, P$17 17, P$18 18, P$19 19, P$20 20, P$21 21, P$22 22, P$23 23, P$24 24

## HEADER_POS24_?70553
designator X?, comment Molex -C-Grid® / SL Series connector   Wire-to-Board 2.54 mm (0.100") pitch header, 24 positions.
footprint 70553-POS24
pins: P$1 1, P$2 2, P$3 3, P$4 4, P$5 5, P$6 6, P$7 7, P$8 8, P$9 9, P$10 10, P$11 11, P$12 12, P$13 13, P$14 14, P$15 15, P$16 16, P$17 17, P$18 18, P$19 19, P$20 20, P$21 21, P$22 22, P$23 23, P$24 24

## HEADER_POS24_?70555
designator X?, comment Molex -C-Grid® / SL Series connector   Wire-to-Board 2.54 mm (0.100") pitch header, 24 positions.
footprint 70555-POS24
pins: P$1 1, P$2 2, P$3 3, P$4 4, P$5 5, P$6 6, P$7 7, P$8 8, P$9 9, P$10 10, P$11 11, P$12 12, P$13 13, P$14 14, P$15 15, P$16 16, P$17 17, P$18 18, P$19 19, P$20 20, P$21 21, P$22 22, P$23 23, P$24 24

## HEADER_POS24_?70634
designator X?, comment Molex -C-Grid® / SL Series connector   Wire-to-Board 2.54 mm (0.100") pitch header, 24 positions.
footprint 70634-POS24
pins: P$1 1, P$2 2, P$3 3, P$4 4, P$5 5, P$6 6, P$7 7, P$8 8, P$9 9, P$10 10, P$11 11, P$12 12, P$13 13, P$14 14, P$15 15, P$16 16, P$17 17, P$18 18, P$19 19, P$20 20, P$21 21, P$22 22, P$23 23, P$24 24

## HEADER_POS24_?74099
designator X?, comment Molex -C-Grid® / SL Series connector   Wire-to-Board 2.54 mm (0.100") pitch header, 24 positions.
footprint 74099-POS24
pins: P$1 1, P$2 2, P$3 3, P$4 4, P$5 5, P$6 6, P$7 7, P$8 8, P$9 9, P$10 10, P$11 11, P$12 12, P$13 13, P$14 14, P$15 15, P$16 16, P$17 17, P$18 18, P$19 19, P$20 20, P$21 21, P$22 22, P$23 23, P$24 24

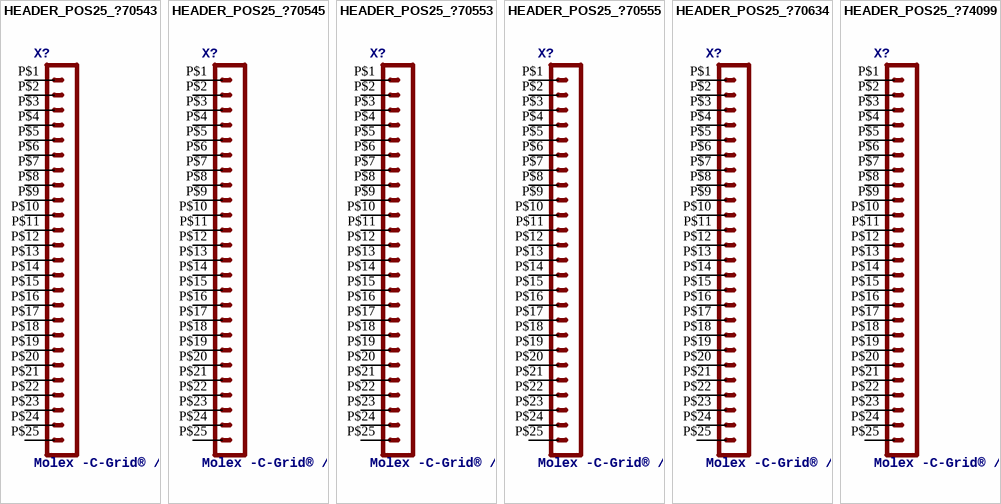
[diagram p4: symbols HEADER_POS25_?70543 to HEADER_POS25_?74099]

## HEADER_POS25_?70543
designator X?, comment Molex -C-Grid® / SL Series connector   Wire-to-Board 2.54 mm (0.100") pitch header, 25 positions.
footprint 70543-POS25
pins: P$1 1, P$2 2, P$3 3, P$4 4, P$5 5, P$6 6, P$7 7, P$8 8, P$9 9, P$10 10, P$11 11, P$12 12, P$13 13, P$14 14, P$15 15, P$16 16, P$17 17, P$18 18, P$19 19, P$20 20, P$21 21, P$22 22, P$23 23, P$24 24, P$25 25

## HEADER_POS25_?70545
designator X?, comment Molex -C-Grid® / SL Series connector   Wire-to-Board 2.54 mm (0.100") pitch header, 25 positions.
footprint 70545-POS25
pins: P$1 1, P$2 2, P$3 3, P$4 4, P$5 5, P$6 6, P$7 7, P$8 8, P$9 9, P$10 10, P$11 11, P$12 12, P$13 13, P$14 14, P$15 15, P$16 16, P$17 17, P$18 18, P$19 19, P$20 20, P$21 21, P$22 22, P$23 23, P$24 24, P$25 25

## HEADER_POS25_?70553
designator X?, comment Molex -C-Grid® / SL Series connector   Wire-to-Board 2.54 mm (0.100") pitch header, 25 positions.
footprint 70553-POS25
pins: P$1 1, P$2 2, P$3 3, P$4 4, P$5 5, P$6 6, P$7 7, P$8 8, P$9 9, P$10 10, P$11 11, P$12 12, P$13 13, P$14 14, P$15 15, P$16 16, P$17 17, P$18 18, P$19 19, P$20 20, P$21 21, P$22 22, P$23 23, P$24 24, P$25 25

## HEADER_POS25_?70555
designator X?, comment Molex -C-Grid® / SL Series connector   Wire-to-Board 2.54 mm (0.100") pitch header, 25 positions.
footprint 70555-POS25
pins: P$1 1, P$2 2, P$3 3, P$4 4, P$5 5, P$6 6, P$7 7, P$8 8, P$9 9, P$10 10, P$11 11, P$12 12, P$13 13, P$14 14, P$15 15, P$16 16, P$17 17, P$18 18, P$19 19, P$20 20, P$21 21, P$22 22, P$23 23, P$24 24, P$25 25

## HEADER_POS25_?70634
designator X?, comment Molex -C-Grid® / SL Series connector   Wire-to-Board 2.54 mm (0.100") pitch header, 25 positions.
footprint 70634-POS25
pins: P$1 1, P$2 2, P$3 3, P$4 4, P$5 5, P$6 6, P$7 7, P$8 8, P$9 9, P$10 10, P$11 11, P$12 12, P$13 13, P$14 14, P$15 15, P$16 16, P$17 17, P$18 18, P$19 19, P$20 20, P$21 21, P$22 22, P$23 23, P$24 24, P$25 25

## HEADER_POS25_?74099
designator X?, comment Molex -C-Grid® / SL Series connector   Wire-to-Board 2.54 mm (0.100") pitch header, 25 positions.
footprint 74099-POS25
pins: P$1 1, P$2 2, P$3 3, P$4 4, P$5 5, P$6 6, P$7 7, P$8 8, P$9 9, P$10 10, P$11 11, P$12 12, P$13 13, P$14 14, P$15 15, P$16 16, P$17 17, P$18 18, P$19 19, P$20 20, P$21 21, P$22 22, P$23 23, P$24 24, P$25 25